# EAGLE library part DP83848C (library COM_ETH-V1)
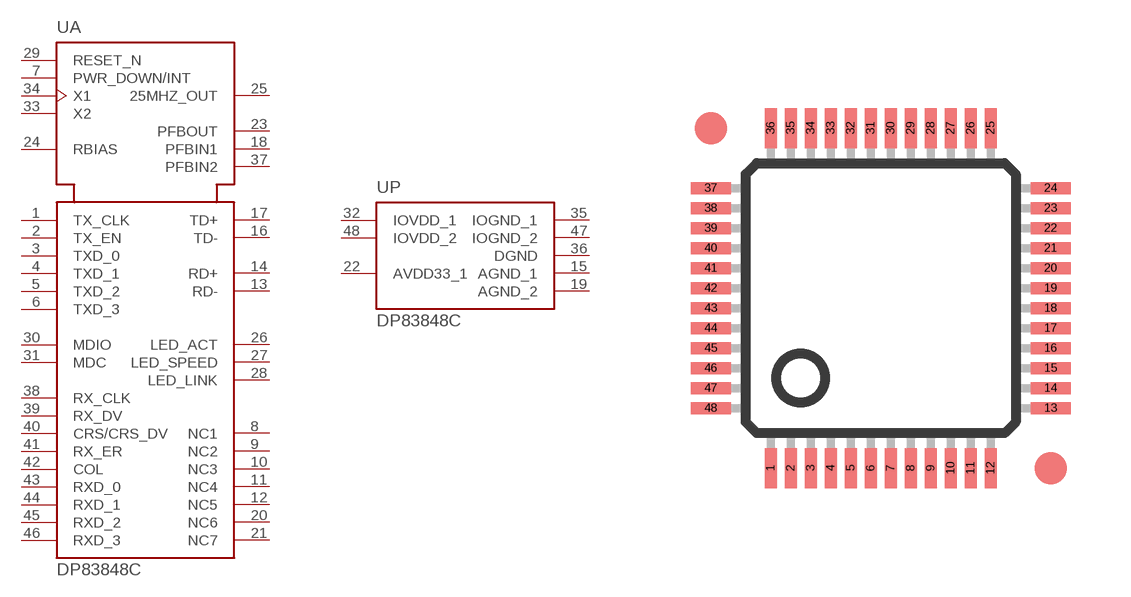
[diagram p3: symbol with the pads of LQFP48; footprint LQFP48]

Designator prefix U; gates A=DP83848C P=DP83848C_PWR

## DP83848CVV  [LQFP48]
1  A:TX_CLK  out
2  A:TX_EN  in
3  A:TXD_0  in
4  A:TXD_1  in
5  A:TXD_2  in
6  A:TXD_3
7  A:PWR_DOWN/INT
8  A:NC1  nc
9  A:NC2  nc
10  A:NC3  nc
11  A:NC4  nc
12  A:NC5  nc
13  A:RD-
14  A:RD+
15  P:AGND_1  pwr
16  A:TD-
17  A:TD+
18  A:PFBIN1  in
19  P:AGND_2  pwr
20  A:NC6  nc
21  A:NC7  nc
22  P:AVDD33_1  pwr
23  A:PFBOUT  out
24  A:RBIAS  in
25  A:25MHZ_OUT  out
26  A:LED_ACT  out
27  A:LED_SPEED  out
28  A:LED_LINK  out
29  A:RESET_N  in
30  A:MDIO
31  A:MDC  in
32  P:IOVDD_1  pwr
33  A:X2  out
34  A:X1  in
35  P:IOGND_1  pwr
36  P:DGND  pwr
37  A:PFBIN2  in
38  A:RX_CLK  out
39  A:RX_DV  out
40  A:CRS/CRS_DV  out
41  A:RX_ER  out
42  A:COL  out
43  A:RXD_0  out
44  A:RXD_1  out
45  A:RXD_2  out
46  A:RXD_3  out
47  P:IOGND_2  pwr
48  P:IOVDD_2  pwr

## Footprint LQFP48 (pad centres in mm)
48-pin plastic LQFP (FPT-48P-M26) www.fma.fujitsu.com/pdf/e713717.pdf
smd 0.3 x 1: 1 -2.75,-4.25; 2 -2.25,-4.25; 3 -1.75,-4.25; 4 -1.25,-4.25; 5 -0.75,-4.25; 6 -0.25,-4.25; 7 0.25,-4.25; 8 0.75,-4.25; 9 1.25,-4.25; 10 1.75,-4.25; 11 2.25,-4.25; 12 2.75,-4.25; 25 2.75,4.25; 26 2.25,4.25; 27 1.75,4.25; 28 1.25,4.25; 29 0.75,4.25; 30 0.25,4.25; 31 -0.25,4.25; 32 -0.75,4.25; 33 -1.25,4.25; 34 -1.75,4.25; 35 -2.25,4.25; 36 -2.75,4.25
smd 1 x 0.3: 13 4.25,-2.75; 14 4.25,-2.25; 15 4.25,-1.75; 16 4.25,-1.25; 17 4.25,-0.75; 18 4.25,-0.25; 19 4.25,0.25; 20 4.25,0.75; 21 4.25,1.25; 22 4.25,1.75; 23 4.25,2.25; 24 4.25,2.75; 37 -4.25,2.75; 38 -4.25,2.25; 39 -4.25,1.75; 40 -4.25,1.25; 41 -4.25,0.75; 42 -4.25,0.25; 43 -4.25,-0.25; 44 -4.25,-0.75; 45 -4.25,-1.25; 46 -4.25,-1.75; 47 -4.25,-2.25; 48 -4.25,-2.75